# EAGLE library part MCP2200? (library mchp-interface)
USB 2.0 to UART Protocol Converter with GPIO Description The MCP2200 is a USB-to-UART serial converter which enables USB connectivity in application that have a UART interface. The device reduces external components by integrating the USB termination resistors. The MCP2200 also has 256-bytes of integrated user EEPROM. The MCP2200 has eight general purpose input / output pins. Four of the pins have alternate functions to indicate USB and communication status. FEATURES • Supports full-speed USB (12 Mb/s) • Implements USB protocol composite device: - Communication Device Class (CDC) for communications and configuration - Human Interface Device (HID) for I/O control • 128-byte buffer to handle data throughput at any UART baud rate: - 64-byte transmit - 64-byte receive • Fully configurable VID and PID assignments, and string descriptors • Bus powered or self-powered • USB 2.0 Compliant: TID 40001150 How to order Family Package MCP2200 SO = SOIC SS = TSSOP MQ = QFN Ref: Datasheet <http://ww1.microchip.com/downloads/en/DeviceDoc/22228B.pdf>
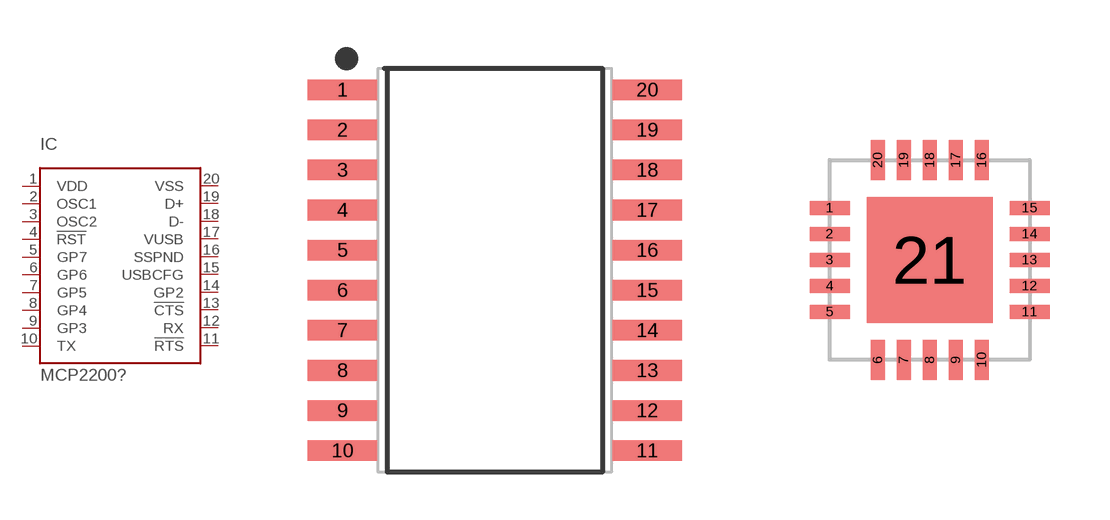
[diagram p0: symbol with the pads of SOIC127P1032X265-20M; footprints SOIC127P1032X265-20M, QFN65P500X500X80-20M]

Designator prefix IC

## MCP2200-I/SO  [SOIC127P1032X265-20M]
1  VDD  pwr
2  OSC1
3  OSC2
4  !RST
5  GP7
6  GP6
7  GP5
8  GP4
9  GP3
10  TX
11  !RTS
12  RX
13  !CTS
14  GP2
15  USBCFG
16  SSPND
17  VUSB
18  D-
19  D+
20  VSS  pwr

## MCP2200-I/MQ  [QFN65P500X500X80-20M]
1  !RST
2  GP7
3  GP6
4  GP5
5  GP4
6  GP3
7  TX
8  !RTS
9  RX
10  !CTS
11  GP2
12  USBCFG
13  SSPND
14  VUSB
15  D-
16  D+
17  VSS  pwr
18  VDD  pwr
19  OSC1
20  OSC2

## MCP2200-I/SS (EAGLEUP: SOP65P775X200-28N)  [SOP65P775X200-20M]
Pads as for SOIC127P1032X265-20M

## Footprint SOIC127P1032X265-20M (pad centres in mm)
Small Outline Package (SOIC20) 1.27mm Pitch 20 Pin count 10.32mm L x 12.08mm W x 2.65mm H ----------------------------------------------------
smd 2.2 x 0.65: 1 -4.826,5.715; 2 -4.826,4.445; 3 -4.826,3.175; 4 -4.826,1.905; 5 -4.826,0.635; 6 -4.826,-0.635; 7 -4.826,-1.905; 8 -4.826,-3.175; 9 -4.826,-4.445; 10 -4.826,-5.715; 11 4.826,-5.715; 12 4.826,-4.445; 13 4.826,-3.175; 14 4.826,-1.905; 15 4.826,-0.635; 16 4.826,0.635; 17 4.826,1.905; 18 4.826,3.175; 19 4.826,4.445; 20 4.826,5.715

## Footprint QFN65P500X500X80-20M (pad centres in mm)
Small Outline Package (SOP8) ----------------------------------------------------
smd 1 x 0.35: 1 -2.5,1.3; 2 -2.5,0.65; 3 -2.5,0; 4 -2.5,-0.65; 5 -2.5,-1.3; 11 2.5,-1.3; 12 2.5,-0.65; 13 2.5,0; 14 2.5,0.65; 15 2.5,1.3
smd 0.35 x 1: 6 -1.3,-2.5; 7 -0.65,-2.5; 8 0,-2.5; 9 0.65,-2.5; 10 1.3,-2.5; 16 1.3,2.5; 17 0.65,2.5; 18 0,2.5; 19 -0.65,2.5; 20 -1.3,2.5
smd 3.15 x 3.15: 21 0,0

## Footprint SOP65P775X200-20M (pad centres in mm)
Small Outline Package (SOP20) 0.65mm Pitch 20 Pin count 7.2mm L x 7.8mm W x 2.0mm H ----------------------------------------------------
smd 1.95 x 0.45: 1 -3.55,2.925; 2 -3.55,2.275; 3 -3.55,1.625; 4 -3.55,0.975; 5 -3.55,0.325; 6 -3.55,-0.325; 7 -3.55,-0.975; 8 -3.55,-1.625; 9 -3.55,-2.275; 10 -3.55,-2.925; 11 3.55,-2.925; 12 3.55,-2.275; 13 3.55,-1.625; 14 3.55,-0.975; 15 3.55,-0.325; 16 3.55,0.325; 17 3.55,0.975; 18 3.55,1.625; 19 3.55,2.275; 20 3.55,2.925